# Altium integrated library Integrated_Library1.IntLib: 12 symbols
Pins are listed as number, name and electrical type; pins without a type are passive.

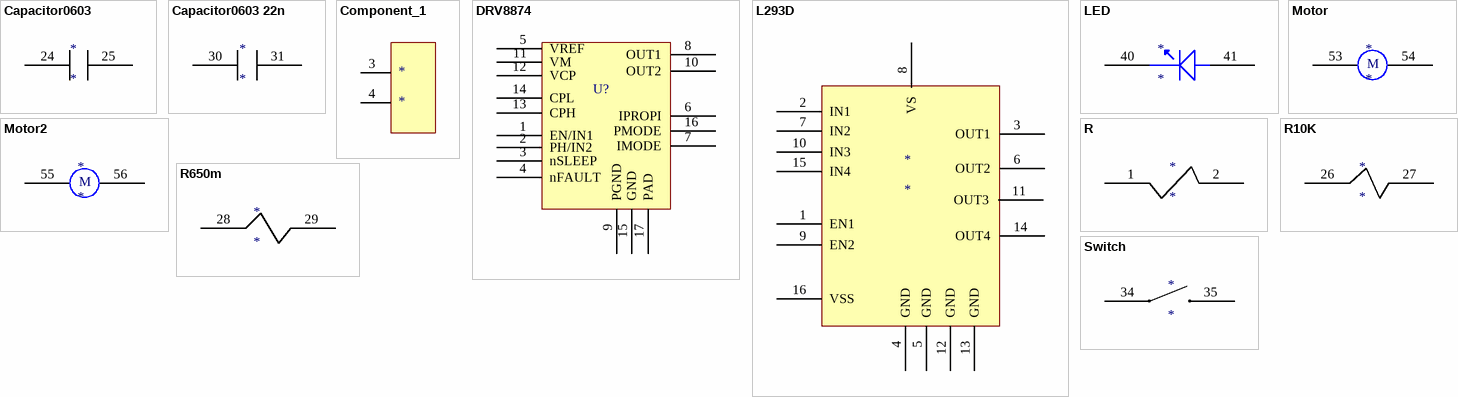
[diagram p0: symbols Capacitor0603 to Switch]

## Capacitor0603
designator *
footprint Capacitor0602
pins: 24, 25

## Capacitor0603 22n
designator *
footprint Capacitor0602
pins: 30, 31

## Component_1
designator *
footprint Connector
pins: 3, 4

## DRV8874
designator U?
Manufacturer: Texas Instruments; Supplier: LCSC
pins: 1 EN/IN1 , 2 PH/IN2, 3 nSLEEP, 4 nFAULT, 5 VREF, 6 IPROPI, 7 IMODE, 8 OUT1, 9 PGND, 10 OUT2, 11 VM, 12 VCP, 13 CPH, 14 CPL, 15 GND, 16 PMODE, 17 PAD

## L293D
designator *
footprint L293D
pins: 1 EN1, 2 IN1, 3 OUT1, 4 GND, 5 GND, 6 OUT2, 7 IN2, 8 VS, 9 EN2, 10 IN3, 11 OUT3, 12 GND, 13 GND, 14 OUT4, 15 IN4, 16 VSS

## LED
designator *
footprint LED
pins: 40, 41

## Motor
designator *
footprint Motor
pins: 53, 54
text: M

## Motor2
designator *
footprint Motor
pins: 55, 56
text: M

## R
designator *
footprint Resistor0603
pins: 1, 2

## R10K
designator *
footprint Resistor0603
pins: 26, 27

## R650m
designator *
footprint Resistor0603
pins: 28, 29

## Switch
designator *
footprint Swicth
pins: 34, 35